# Altium footprint library mylib.PcbLib: 214 footprints (part 7 of 14)
Each footprint in its own frame and in the unit in brackets; x right, y up, seen from the top. Pads: shape width x height; smd on the part's side, far side on the other; paste and mask are expansions set on the pad; w line width, h text height; cw(c..) or ccw(c..) is an arc to the next point about the centre after c.
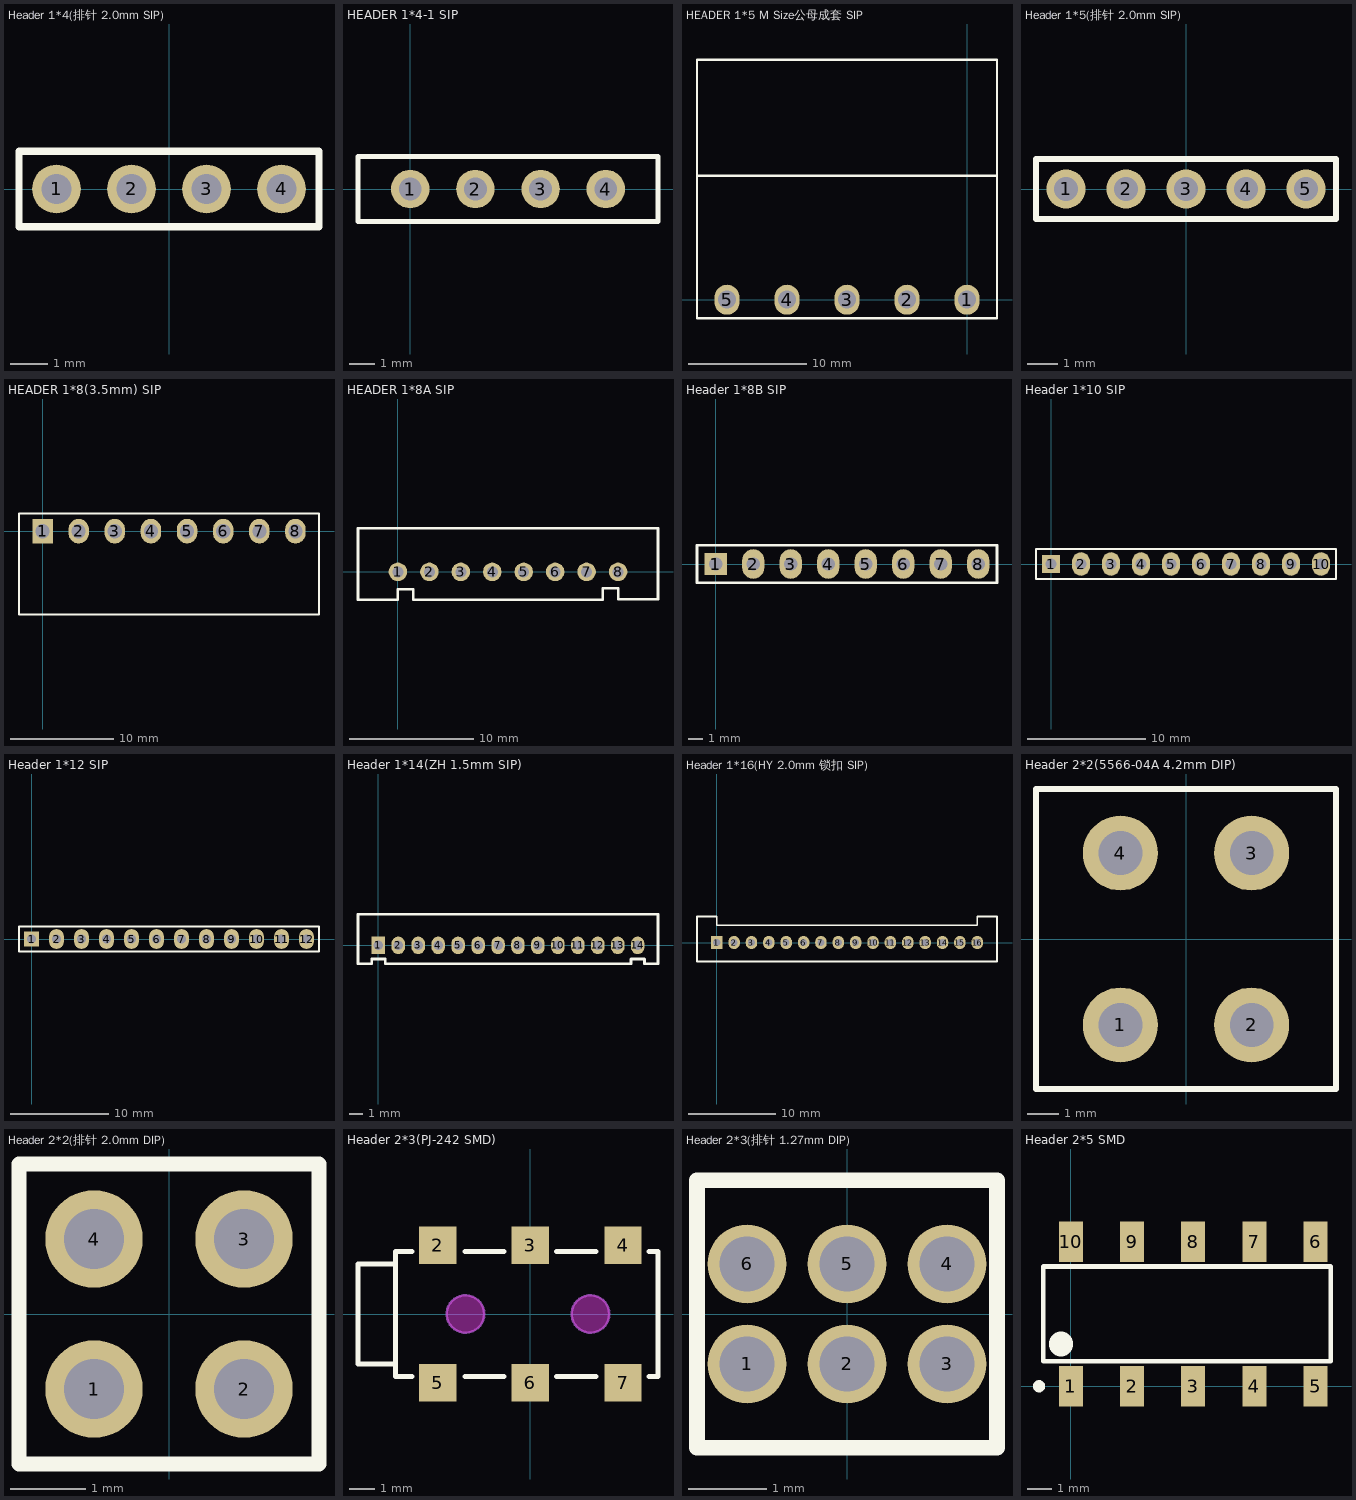
[diagram p6: the footprints below, top view; thin cyan lines are the x and y axes]

## Header 1*4(排针 2.0mm SIP) [mm]
pads (4):
  round 1.3 hole 0.8: 1(-3,0) 2(-1,0) 3(1,0) 4(3,0)
Top Overlay:
  lines w0.2: -4,-1 -4,1 4,1 4,-1 -4,-1

## HEADER 1*4-1 SIP [mil]
pads (4):
  round 59 hole 35: 1(0,0) 2(100,0) 3(200,0) 4(300,0)
Top Overlay:
  lines w8: -80,-50 380,-50 380,50 -80,50 -80,-50

## HEADER 1*5 M Size公母成套 SIP [mil]
pads (5):
  oval 84x100 hole 60: 1(0,0) 2(-200,0) 3(-400,0) 4(-600,0) 5(-800,0)
Top Overlay:
  lines w8: -900,413.39 100,413.39 ; -900,-62 100,-62 100,800 -900,800 -900,-62

## Header 1*5(排针 2.0mm SIP) [mm]
pads (5):
  round 1.3 hole 0.8: 1(-4,0) 2(-2,0) 3(0,0) 4(2,0) 5(4,0)
Top Overlay:
  lines w0.2: -5,-1 5,-1 5,1 -5,1 -5,-1

## HEADER 1*8(3.5mm) SIP [mil]
pads (8):
  rect 78x94 hole 54: 1(0,0)
  oval 78x94 hole 54: 2(137.8,0) 3(275.59,0) 4(413.39,0) 5(551.18,0) 6(688.98,0) 7(826.77,0) 8(964.57,0)
Top Overlay:
  lines w8: -89.72,-318 1054.28,-318 1054.28,68 -89.72,68 -89.72,-318

## HEADER 1*8A SIP [mil]
pads (8):
  round 59 hole 35: 1(0,0) 2(100,0) 3(200,0) 4(300,0) 5(400,0) 6(500,0) 7(600,0) 8(700,0)
Top Overlay:
  lines w8: 0,-55 0,-88 -127,-88 -127,138 827,138 827,-87 700,-87 700,-52 652,-52 652,-88 48,-88 48,-55 1,-55

## Header 1*8B SIP [mm]
pads (8):
  rect 1.5x1.5 hole 0.9: 1(0,0)
  oval 1.5x2 hole 0.9: 2(2.54,0) 3(5.08,0) 4(7.62,0) 5(10.16,0) 6(12.7,0) 7(15.24,0) 8(17.78,0)
Top Overlay:
  lines w0.2: -1.27,-1.27 19.05,-1.27 19.05,1.27 -1.27,1.27 -1.27,-1.27

## Header 1*10 SIP [mm]
pads (10):
  rect 1.5x1.5 hole 0.9: 1(0,0)
  oval 1.5x2 hole 0.9: 2(2.54,0) 3(5.08,0) 4(7.62,0) 5(10.16,0) 6(12.7,0) 7(15.24,0) 8(17.78,0) 9(20.32,0) 10(22.86,0)
Top Overlay:
  lines w0.2: -1.27,-1.27 -1.27,1.27 24.13,1.27 24.13,-1.27 -1.27,-1.27

## Header 1*12 SIP [mm]
pads (12):
  rect 1.5x1.5 hole 0.9: 1(0,0)
  oval 1.5x2 hole 0.9: 2(2.54,0) 3(5.08,0) 4(7.62,0) 5(10.16,0) 6(12.7,0) 7(15.24,0) 8(17.78,0) 9(20.32,0) 10(22.86,0) 11(25.4,0) 12(27.94,0)
Top Overlay:
  lines w0.2: -1.27,-1.27 29.21,-1.27 29.21,1.27 -1.27,1.27 -1.27,-1.27

## Header 1*14(ZH 1.5mm SIP) [mil]
pads (14):
  rect 40x52 hole 28: 1(0,0)
  oval 40x52 hole 28: 2(59.06,0) 3(118.11,0) 4(177.17,0) 5(236.22,0) 6(295.28,0) 7(354.33,0) 8(413.39,0) 9(472.44,0) 10(531.5,0) 11(590.55,0) 12(649.61,0) 13(708.66,0) 14(767.72,0)
Top Overlay:
  lines w8: -60.14,-54 -19.14,-54 -19.14,-40 20.86,-40 20.86,-54 747.86,-54 747.86,-40 787.86,-40 787.86,-54 827.86,-54 827.86,92 -60.14,92 -60.14,-54

## Header 1*16(HY 2.0mm 锁扣 SIP) [mil]
pads (16):
  rect 52x60 hole 32: 1(0,0)
  oval 52x60 hole 32: 2(78.74,0) 3(157.48,0) 4(236.22,0) 5(314.96,0) 6(393.7,0) 7(472.44,0) 8(551.18,0) 9(629.92,0) 10(708.66,0) 11(787.4,0) 12(866.14,0) 13(944.88,0) 14(1023.62,0) 15(1102.36,0) 16(1181.1,0)
Top Overlay:
  lines w8: -89.45,-86 1270.55,-86 1270.55,118 1181.1,118 1181.1,78 0,78 0,118 -89.45,118 -89.45,-86

## Header 2*2(5566-04A 4.2mm DIP) [mm]
pads (4):
  round 2.4 hole 1.4: 1(-2.1,-2.75) 2(2.1,-2.75) 3(2.1,2.75) 4(-2.1,2.75)
Top Overlay:
  lines w0.2: -4.8,-4.8 4.8,-4.8 4.8,4.8 -4.8,4.8 -4.8,-4.8

## Header 2*2(排针 2.0mm DIP) [mm]
pads (4):
  round 1.3 hole 0.8: 1(-1,-1) 2(1,-1) 3(1,1) 4(-1,1)
Top Overlay:
  lines w0.2: -2,-2 -2,2 2,2 2,-2 -2,-2

## Header 2*3(PJ-242 SMD) [mm]
pads (6):
  rect 1.5x1.5 smd: 2(-3.7,2.75) 3(0,2.75) 4(3.7,2.75) 5(-3.7,-2.75) 6(0,-2.75) 7(3.7,-2.75)
Top Overlay:
  lines w0.2: -5.4,-2 -6.9,-2 -6.9,2 -5.4,2 ; -4.75,-2.5 -5.4,-2.5 -5.4,2.5 -4.75,2.5 ; -2.616,-2.5 -1.067,-2.5 ; -2.616,2.5 -1.067,2.5 ; 1.041,-2.5 2.616,-2.5 ; 1.041,2.5 2.616,2.5 ; 4.75,-2.5 5.1,-2.5 5.1,2.5 4.75,2.5
Keep-Out Layer:
  board cut-out: -3.356,0 -3.331,-0.196 -3.255,-0.378 -3.135,-0.535 -2.978,-0.655 -2.796,-0.731 -2.6,-0.756 -2.404,-0.731 -2.222,-0.655 -2.065,-0.535 -1.945,-0.378 -1.869,-0.196 -1.844,0 -1.869,0.196 -1.945,0.378 -2.065,0.535 -2.222,0.655 -2.404,0.731 -2.6,0.756 -2.796,0.731 -2.978,0.655 -3.135,0.535 -3.255,0.378 -3.331,0.196
  board cut-out: 1.644,0 1.669,-0.196 1.745,-0.378 1.865,-0.535 2.022,-0.655 2.204,-0.731 2.4,-0.756 2.596,-0.731 2.778,-0.655 2.935,-0.535 3.055,-0.378 3.131,-0.196 3.156,0 3.131,0.196 3.055,0.378 2.935,0.535 2.778,0.655 2.596,0.731 2.4,0.756 2.204,0.731 2.022,0.655 1.865,0.535 1.745,0.378 1.669,0.196
Mechanical 1:
  circle w0.102: c-2.6,0 r0.75
  circle w0.102: c2.4,0 r0.75

## Header 2*3(排针 1.27mm DIP) [mm]
pads (6):
  round 1 hole 0.7: 1(-1.27,-0.635) 2(0,-0.635) 3(1.27,-0.635) 4(1.27,0.635) 5(0,0.635) 6(-1.27,0.635)
Top Overlay:
  lines w0.2: -1.905,-1.7 -1.905,1.7 1.905,1.7 1.905,-1.7 -1.905,-1.7

## Header 2*5 SMD [mm]
pads (10):
  rect 1x1.7 smd: 1(0,0) 2(2.54,0) 3(5.08,0) 4(7.62,0) 5(10.16,0) 6(10.16,6) 7(7.62,6) 8(5.08,6) 9(2.54,6) 10(0,6)
Top Overlay:
  circle w0.254: c-1.321,0 r0.127
  lines w0.2: -1.15,1.041 -1.15,4.978 10.795,4.978 10.795,1.041 -1.15,1.041
  lines w1: -0.406,1.73 -0.406,1.781